# EAGLE library part 64900821022 (library Wire_to_Board_Connectors_rev15d)
WR-MPC4-4.20mm Male Dual Row Angled Header with Mounting Flanges for Screw-in Retention,8 pins=>Code : Con_WTB_MPC4_2_PCB_64900821022 <http://katalog.we-online.de/media/thumbs2/eican/thb_Con_WTB_MPC4_2_PCB_6490xx21022_pf2.jpg> Details see: http://katalog.we-online.de/en/em/649_0xx_210_22 Created 2014-06-06, Karrer Zheng 2014 (C) Würth Elektronik
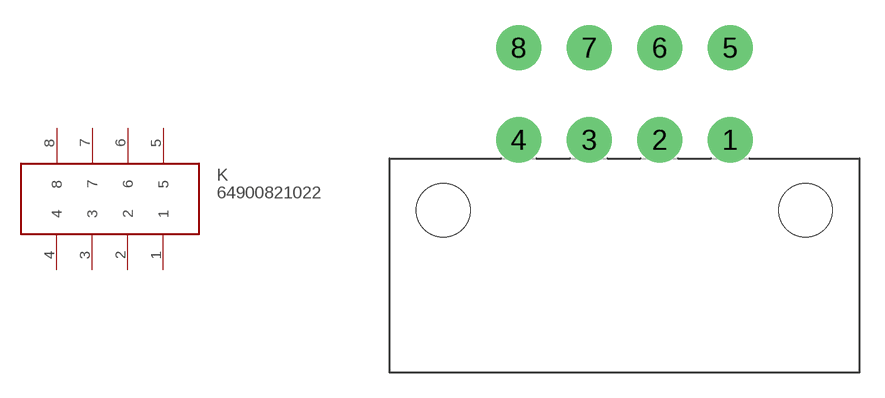
[diagram p280: symbol with the pads of 64900821022; footprint 64900821022]

Designator prefix K

## 64900821022  [64900821022]
1  1
2  2
3  3
4  4
5  5
6  6
7  7
8  8

## Footprint 64900821022 (pad centres in mm)
WR-MPC4-4.20mm Male Dual Row Angled Header with Mounting Flanges for Screw-in Retention,8 pins
drill 1.8: 1 6.3,4.2; 2 2.1,4.2; 3 -2.1,4.2; 4 -6.3,4.2; 5 6.3,9.7; 6 2.1,9.7; 7 -2.1,9.7; 8 -6.3,9.7
hole 3.2 at 10.8,0
hole 3.2 at -10.8,0